# EAGLE library part 629105136821 (library InputOutputIO (rev19a))
WR-COM SMT Horizontal 5 Contacts Micro USB Type B,5 pins=>Code : Con_I-O_COM_MicroUSB_629105136821 <http://katalog.we-online.de/media/images/eican/Con_I-O_COM_MicroUSB_629105136821_pf2.jpg> Details see: http://katalog.we-online.de/en/em/COM_MICRO_SMT_TYPE_B_HORIZONTAL/629105136821?m Created 2014-07-09, Karrer Zheng 2014 (C) Würth Elektronik
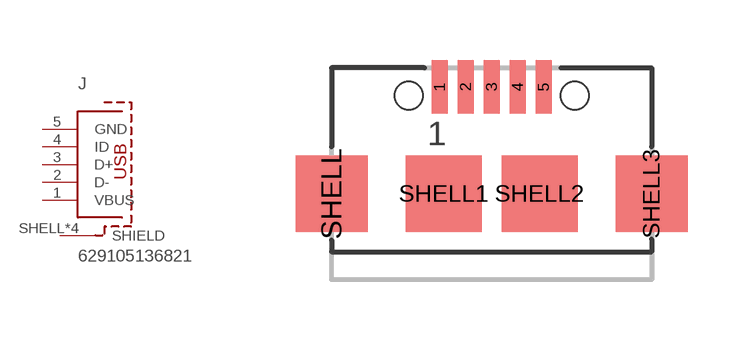
[diagram p66: symbol with the pads of 629105136821; footprint 629105136821]

Designator prefix J

## 629105136821  [629105136821]
1  VBUS  pas
2  D-  pas
3  D+  pas
4  ID  pas
5  GND  pas
SHELL  SHIELD  pas
SHELL1  SHIELD  pas
SHELL2  SHIELD  pas
SHELL3  SHIELD  pas

## Footprint 629105136821 (pad centres in mm)
WR-COM SMT Horizontal 5 Contacts Micro USB Type B, 5 pins
smd 0.4 x 1.35: 1 -1.3,2.675; 2 -0.65,2.675; 3 0,2.675; 4 0.65,2.675; 5 1.3,2.675
smd 1.8 x 1.9: SHELL -4,0; SHELL3 4,0
smd 1.9 x 1.9: SHELL1 -1.2,0; SHELL2 1.2,0
hole 0.7 at -2.075,2.45
hole 0.7 at 2.075,2.45